# Altium schematic symbol library HMC539ALP3E.SchLib: 2 symbols
Pins are listed as number, name and electrical type; pins without a type are passive.

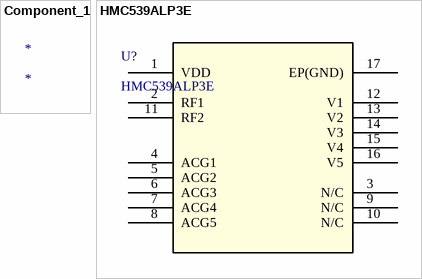
[diagram p0: symbols Component_1 to HMC539ALP3E]

## Component_1
designator *

## HMC539ALP3E
designator U?
No Description Available; Mfr_Name: Analog Devices Inc; Copyright: Copyright (C) 2022 Ultra Librarian. All rights reserved.; Manufacturer_Part_Number: HMC539ALP3E; RefDes: RefDes; Type: DEV
footprint HCP_16_1_ADI
pins: 1 VDD, 2 RF1, 3 N/C, 4 ACG1, 5 ACG2, 6 ACG3, 7 ACG4, 8 ACG5, 9 N/C, 10 N/C, 11 RF2, 12 V1, 13 V2, 14 V3, 15 V4, 16 V5, 17 EP(GND)